# Altium schematic symbol library diode_sch_A3C2.Schlib: 1 symbol
Pins are listed as number, name and electrical type; pins without a type are passive.

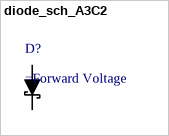
[diagram p0: symbol diode_sch_A3C2]

## diode_sch_A3C2
designator D?
Schottky, Anode 3, Cathode 2
pins: 2, 3